# EAGLE library part AX50424 (library axsem_v4-11)
AXSEM paging receiver for 400-470 MHz and 800-940 MHz 1 kbps to 200 kbps FSK 1 kbps to 600 kbps ASK & PSK Wire mode Raw mode HDLC mode 128 bit FIFO
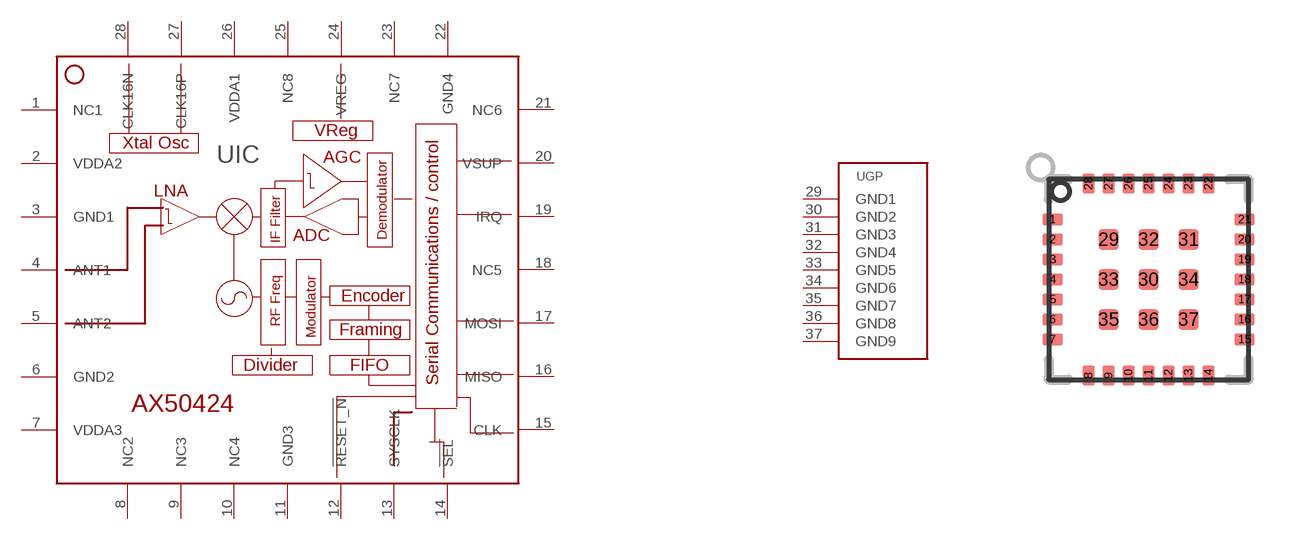
[diagram p2: symbol with the pads of QFN28; footprint QFN28]

Designator prefix U; gates IC=AX50424 GP=GROUNDPAD

## AX50424N  [QFN28]
1  IC:NC1  nc
2  IC:VDDA2  pwr
3  IC:GND1  pwr
4  IC:ANT1  pas
5  IC:ANT2  pas
6  IC:GND2  pwr
7  IC:VDDA3  pwr
8  IC:NC2  nc
9  IC:NC3  nc
10  IC:NC4  nc
11  IC:GND3  pwr
12  IC:!RESET_N  in
13  IC:SYSCLK  out
14  IC:!SEL  in
15  IC:CLK  in
16  IC:MISO  out
17  IC:MOSI  in
18  IC:NC5  nc
19  IC:IRQ  out
20  IC:VSUP  pwr
21  IC:NC6  nc
22  IC:GND4  pwr
23  IC:NC7  nc
24  IC:VREG  pwr
25  IC:NC8  nc
26  IC:VDDA1  pwr
27  IC:CLK16P  pas
28  IC:CLK16N  pas
29  GP:GND1  pwr
30  GP:GND2  pwr
31  GP:GND3  pwr
32  GP:GND4  pwr
33  GP:GND5  pwr
34  GP:GND6  pwr
35  GP:GND7  pwr
36  GP:GND8  pwr
37  GP:GND9  pwr

## Footprint QFN28 (pad centres in mm)
AXSEM QFN28 package
smd 0.5 x 0.3: 1 -2.4,1.5; 2 -2.4,1; 3 -2.4,0.5; 4 -2.4,0; 5 -2.4,-0.5; 6 -2.4,-1; 7 -2.4,-1.5; 15 2.4,-1.5; 16 2.4,-1; 17 2.4,-0.5; 18 2.4,0; 19 2.4,0.5; 20 2.4,1; 21 2.4,1.5
smd 0.3 x 0.5: 8 -1.5,-2.4; 9 -1,-2.4; 10 -0.5,-2.4; 11 0,-2.4; 12 0.5,-2.4; 13 1,-2.4; 14 1.5,-2.4; 22 1.5,2.4; 23 1,2.4; 24 0.5,2.4; 25 0,2.4; 26 -0.5,2.4; 27 -1,2.4; 28 -1.5,2.4
smd 0.5 x 0.5: 29 -1,1; 30 0,0; 31 1,1; 32 0,1; 33 -1,0; 34 1,0; 35 -1,-1; 36 0,-1; 37 1,-1